# Altium schematic symbol library SCH - CONNECTORS - 12 PIN.SCHLIB: 1 symbol
Pins are listed as number, name and electrical type; pins without a type are passive.

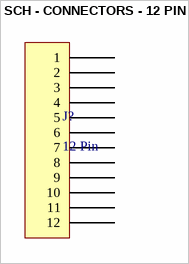
[diagram p0: symbol SCH - CONNECTORS - 12 PIN]

## SCH - CONNECTORS - 12 PIN
designator J?, comment 12 Pin
pins: 1, 2, 3, 4, 5, 6, 7, 8, 9, 10, 11, 12